# Altium schematic symbol library LM358ADR.SchLib: 1 symbol
Pins are listed as number, name and electrical type; pins without a type are passive.

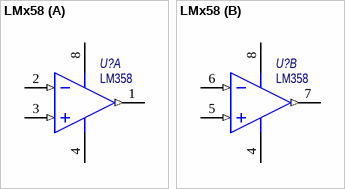
[diagram p0: symbol LMx58]

## LMx58
designator U?  Наименование: LM358  (hidden comment: LMx58)
General Purpose Dual Operational Amplifiers; Назначение: Сдвоенный операционный усилитель; Потребление, Вт: 0,03; ComponentLink2Description: Datasheet; ComponentLink2URL: https://static.chipdip.ru/lib/550/DOC001550793.pdf
footprint SOIC-8
pins on every part: 4 -V (power), 8 +V (power)
part A pins: 1 OUT A (out), 2 -IN A (in), 3 +IN A (in)
part B pins: 5 +IN B (in), 6 -IN B (in), 7 OUT B (out)